# EAGLE library part 610022243021 (library Eagle_BOARD-TO-BOARD_CONNECTORS (rev18b))
WR-PHD 2.54mm SMT Dual Socket Header Bottom Entry, 22 Pins=>Code : Con_BTB_SHD_2.54_2_610022243021 <http://katalog.we-online.de/media/images/eican/Con_BTB_SHD_2.54_2_6100xx243021_pf2.jpg> http://katalog.we-online.de/en/em/PHD_2_54_SMT_DUAL_SOCKET_HEADER_BOTTOM_ENTRY_6100XX243021 Created 2014-05-30, Karrer Zheng 2014 (C) Würth Elektronik
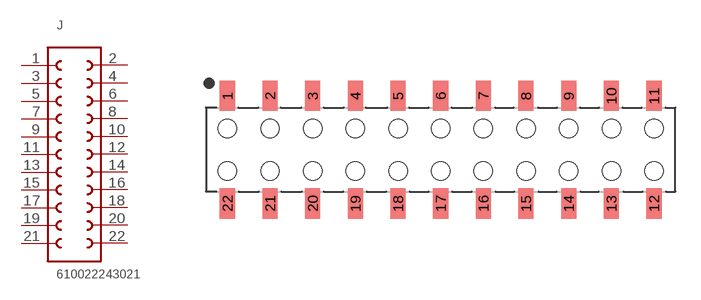
[diagram p183: symbol with the pads of 610022243021; footprint 610022243021]

Designator prefix J

## 610022243021  [610022243021]
1  1  pas
2  22  pas
3  2  pas
4  21  pas
5  3  pas
6  20  pas
7  4  pas
8  19  pas
9  5  pas
10  18  pas
11  6  pas
12  17  pas
13  7  pas
14  16  pas
15  8  pas
16  15  pas
17  9  pas
18  14  pas
19  10  pas
20  13  pas
21  11  pas
22  12  pas

## Footprint 610022243021 (pad centres in mm)
WR-PHD 2.54mm SMT Dual Socket Header Bottom Entry, 22 Pins
smd 0.9 x 1.8: 1 -12.7,3.2; 2 -10.16,3.2; 3 -7.62,3.2; 4 -5.08,3.2; 5 -2.54,3.2; 6 0,3.2; 7 2.54,3.2; 8 5.08,3.2; 9 7.62,3.2; 10 10.16,3.2; 11 12.7,3.2; 12 12.7,-3.2; 13 10.16,-3.2; 14 7.62,-3.2; 15 5.08,-3.2; 16 2.54,-3.2; 17 0,-3.2; 18 -2.54,-3.2; 19 -5.08,-3.2; 20 -7.62,-3.2; 21 -10.16,-3.2; 22 -12.7,-3.2
hole 1.1 at -12.7,1.27
hole 1.1 at -10.16,1.27
hole 1.1 at -10.16,-1.27
hole 1.1 at -12.7,-1.27
hole 1.1 at -7.62,1.27
hole 1.1 at -7.62,-1.27
hole 1.1 at -5.08,1.27
hole 1.1 at -5.08,-1.27
hole 1.1 at -2.54,1.27
hole 1.1 at -2.54,-1.27
hole 1.1 at 0,1.27
hole 1.1 at 0,-1.27
hole 1.1 at 2.54,1.27
hole 1.1 at 2.54,-1.27
hole 1.1 at 5.08,1.27
hole 1.1 at 5.08,-1.27
hole 1.1 at 7.62,1.27
hole 1.1 at 7.62,-1.27
hole 1.1 at 10.16,1.27
hole 1.1 at 10.16,-1.27
hole 1.1 at 12.7,1.27
hole 1.1 at 12.7,-1.27